# Altium footprint library Lib Pcb.PcbLib: 84 footprints (part 1 of 6)
Each footprint in its own frame and in the unit in brackets; x right, y up, seen from the top. Pads: shape width x height; smd on the part's side, far side on the other; paste and mask are expansions set on the pad; w line width, h text height; cw(c..) or ccw(c..) is an arc to the next point about the centre after c.
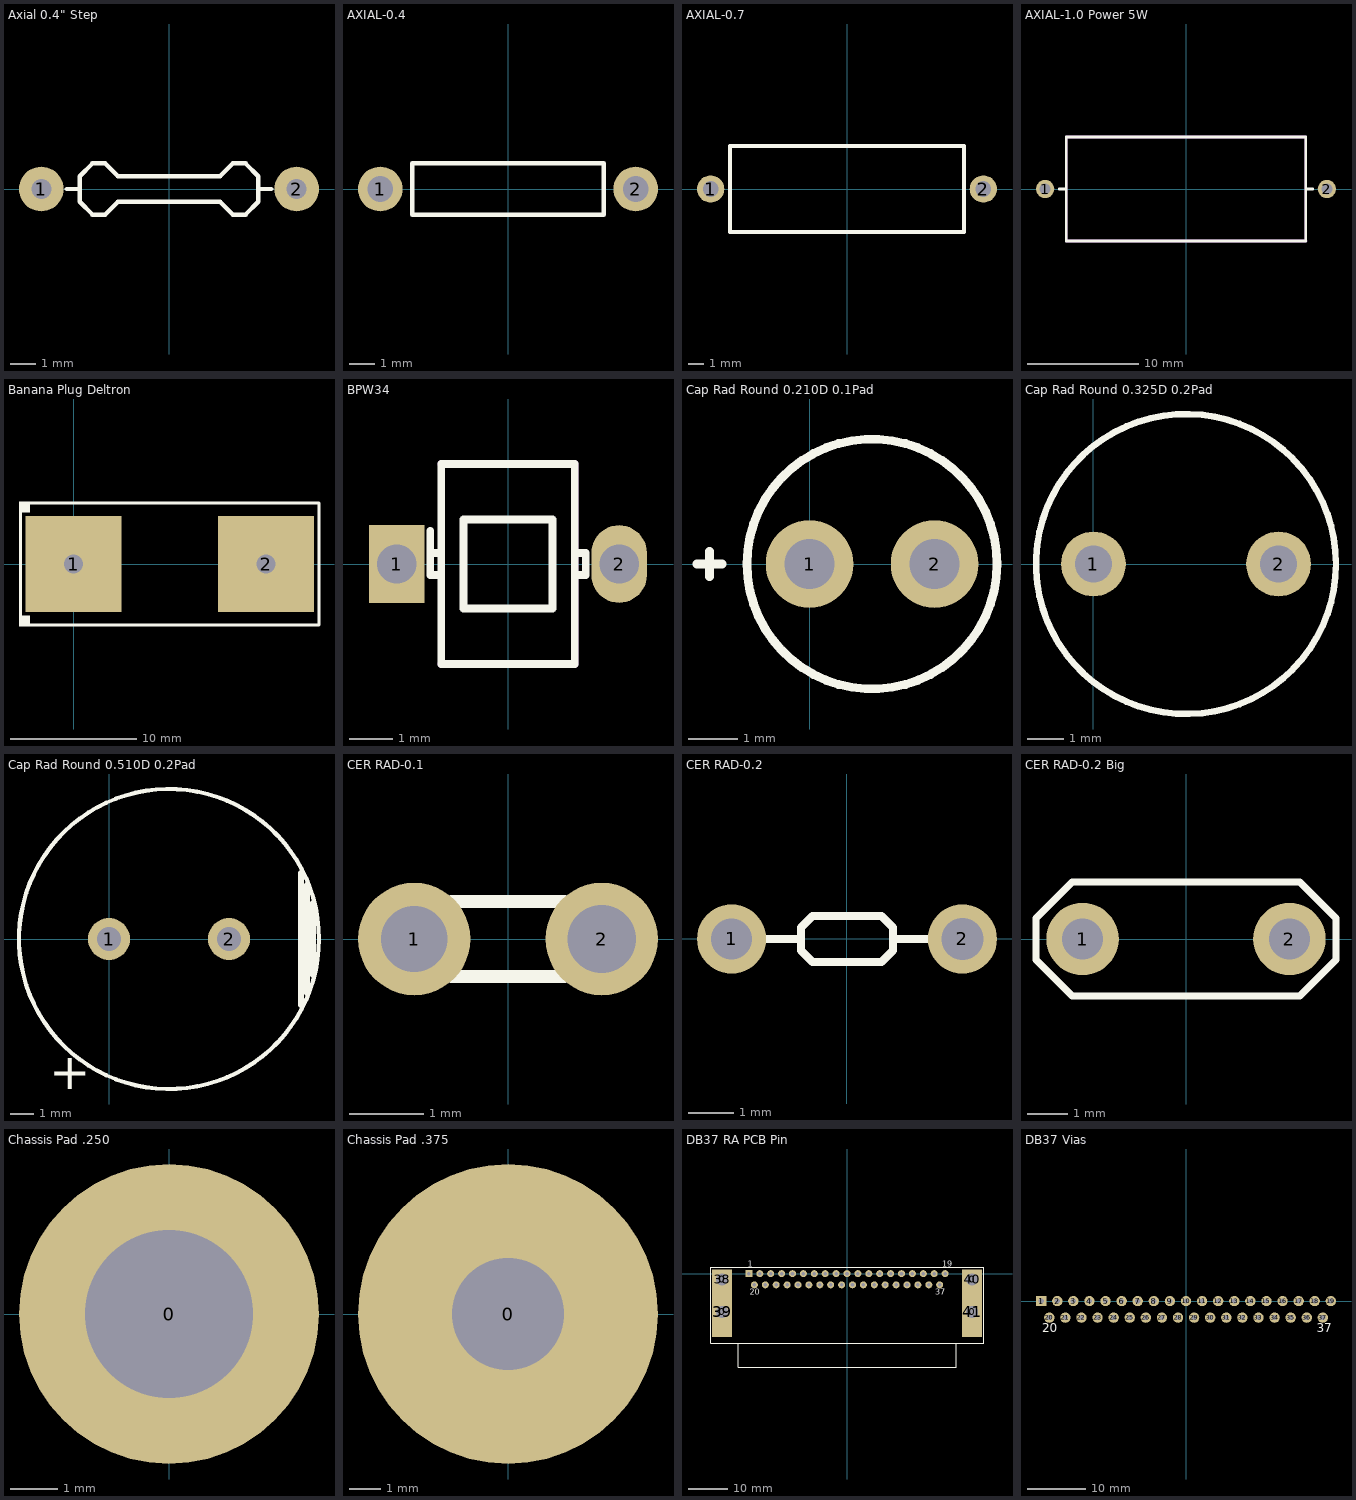
[diagram p0: the footprints below, top view; thin cyan lines are the x and y axes]

## Axial 0.4" Step [mil] "Axial 3D Step"
height 100
pads (2):
  round 70 hole 31.5: 1(-200,0) 2(200,0)
Top Overlay:
  lines w7: -160,0 -140,0 ; 140,0 160,0 ; -140,-20 -120,-40 -100,-40 -80,-20 80,-20 100,-40 120,-40 140,-20 140,20 120,40 100,40 80,20 -80,20 -100,40 -120,40 -140,20 -140,-20
3D body: height 115.5, standoff -100, extent -211.99,-45.49 212.01,45.51

## AXIAL-0.4 [mil] "Resistance 1/4W"
height 100
pads (2):
  round 70 hole 40: 1(-200,0) 2(200,0)
Top Overlay:
  lines w7: -150,-40 150,-40 150,40 -150,40 -150,-40
3D body: height 20, standoff -40, extent 190,-10 210,10
3D body: height 90, standoff 10, extent -155,-45 155,45
3D body: height 40, standoff 20, extent -210,-10 -155,10
3D body: height 40, standoff 20, extent 155,-10 210,10
3D body: height 20, standoff -40, extent -210,-10 -190,10

## AXIAL-0.7 [mil]
pads (2):
  round 70 hole 40: 1(-350,0) 2(350,0)
Top Overlay:
  lines w10: -300,-110 -300,110 300,110 300,-110 -300,-110

## AXIAL-1.0 Power 5W [mm]
pads (2):
  round 1.65 hole 1: 1(-12.7,0) 2(12.7,0)
Top Overlay:
  lines w0.254: -11.43,0 -10.795,0 ; 10.795,0 11.43,0 ; -10.795,-4.699 10.795,-4.699 10.795,4.699 -10.795,4.699 -10.795,-4.699
Mechanical 3:
  lines w0.254: -10.795,-4.699 -10.795,4.699 10.795,4.699 10.795,-4.699 ; -10.77,-4.699 10.82,-4.699

## Banana Plug Deltron [mil]
pads (2):
  rect 300x300 hole 60: 1(0,0) 2(600,0)
Top Overlay:
  rectangle: -170,-195 -135,-160
  rectangle: -170,160 -135,195
  lines w10: -165,-190 765,-190 765,190 -165,190 -165,-190

## BPW34 [mil] "BPW34 Trough Hole"
height 100
pads (2):
  rect 50x70 hole 35.4: 1(-100,0)
  oval 50x70 hole 35.4: 2(100,0)
Top Overlay:
  lines w7: -70,10 -60,10 ; -70,30 -70,-10 -60,-10 ; 60,-10 70,-10 70,10 60,10 ; -60,-90 -60,90 60,90 60,-90 -60,-90 ; -40,-40 -40,0 -40,40 40,40 40,-40 -40,-40
Mechanical 1:
  lines w7: -60,-90 60,-90 60,90 -60,90
3D body: height 70, standoff 10, extent -60,-90 60,90
3D body: height 77, standoff 75, extent -40,-40 40,40

## Cap Rad Round 0.210D 0.1Pad [mil] "Cap Rad Round 0.210 0.1Pad"
height 450
pads (2):
  round 70 hole 40: 1(0,0) 2(100,0)
Top Overlay:
  circle w7: c50,0 r100
  lines w7: -90,0 -70,0 ; -80,-10 -80,10
3D body: height 200, standoff 100, extent 81.32,-39.92 161.01,39.92
3D body: height 400, standoff 300, extent 81.32,-39.92 161.01,39.92
3D body: height 10, standoff -30, extent -14.88,-14.96 15,14.98
3D body: height 10, standoff -30, extent 85.12,-14.96 115,14.98
3D body: height 460, standoff 10, extent -54.17,-104.79 155,104.8
3D body: height 420, standoff 20, extent -20.29,-87.82 159,91.82

## Cap Rad Round 0.325D 0.2Pad [mil]
pads (2):
  round 70 hole 40: 1(0,0) 2(200,0)
Top Overlay:
  circle w7: c100,0 r162

## Cap Rad Round 0.510D 0.2Pad [mil]
pads (2):
  round 70 hole 40: 1(0,0) 2(200,0)
Top Overlay:
  circle w7: c100,0 r250
  lines w10: 320,-110 320,110 ; 330,-90 330,90 ; 340,-60 340,60
  text "+" at -100,-250 h60

## CER RAD-0.1 [mil]
pads (2):
  round 60 hole 35.4: 1(-50,0)
  round 60 hole 36.4: 2(50,0)
Top Overlay:
  lines w7: -40,-10 -30,-20 30,-20 40,-10 40,10 30,20 -30,20 -40,10 -40,-10
3D body: height 77, standoff 10, extent -40,-20 40,20

## CER RAD-0.2 [mil]
height 150
pads (2):
  round 60 hole 35.4: 1(-100,0)
  round 60 hole 36.4: 2(100,0)
Top Overlay:
  lines w7: -75,0 -40,0 ; 40,0 75,0 ; -40,-10 -30,-20 30,-20 40,-10 40,10 30,20 -30,20 -40,10 -40,-10
3D body: height 77, standoff 10, extent -40,-20 40,20

## CER RAD-0.2 Big [mil] "Capacitor Ceramic 0.2\"cc"
height 150
pads (2):
  round 70 hole 40: 1(-100,0) 2(100,0)
Top Overlay:
  lines w7: -145,-20 -145,20 -110,55 110,55 145,20 145,-20 110,-55 -110,-55 -145,-20
3D body: height 275, standoff 50, extent -150,-60 150,60
3D body: height 5, standoff -70, extent 85.13,-14.96 115.01,14.98
3D body: height 5, standoff -70, extent -114.88,-14.96 -85,14.98

## Chassis Pad .250 [mil] "Chassis Pad"
pads (1):
  round 250 hole 140: 0(0,0)

## Chassis Pad .375 [mil] "Chassis Pad"
pads (1):
  round 375 hole 140: 0(0,0)

## DB37 RA PCB Pin [mil] "DB37 Norcomp 183-037-113R161"
height 500
pads (45):
  round 125 on Top Overlay: 0(-1250,-381) 0(-1250,-56) 0(1250,-381) 0(1250,-56)
  rect 70x70 hole 35.4: 1(-981,0)
  round 70 hole 35.4: 2(-872,0) 3(-763,0) 4(-654,0) 5(-545,0) 6(-436,0) 7(-327,0) 8(-218,0) 9(-109,0) 10(0,0) 11(109,0) 12(218,0) 13(327,0) 14(436,0) 15(545,0) 16(654,0) 17(763,0) 18(872,0) 19(981,0) 20(-926,-112) 21(-817,-112) 22(-708,-112) 23(-599,-112) 24(-490,-112) 25(-381,-112) 26(-272,-112) 27(-163,-112) 28(-54,-112) 29(55,-112) 30(164,-112) 31(273,-112) 32(382,-112) 33(491,-112) 34(600,-112) 35(709,-112) 36(818,-112) 37(927,-112)
  rect 200x200 hole 120: 38(-1250,-56) 40(1250,-56)
  rect 200x500 hole 120: 39(-1250,-381) 41(1250,-381)
Top Overlay:
  lines w5: -1090,-696 -1090,-936 1090,-936 1090,-696 ; -1365,-696 1365,-696 1365,64 -1365,64 -1365,-696
  text "1" at -995,70 h59.06
  text "20" at -975,-210 h59.06
  text "37" at 885,-210 h59.06
  text "19" at 950,70 h59.06
3D body: height 400, standoff 50, extent -1090,-936 1090,-696
3D body: height 500, standoff 5, extent -1365,-696 1365,-659
3D body: height 75, standoff 5, extent -1365,-696 1365,65
3D body: height 81, standoff 4, extent -1309.52,-115.88 -1190,3.89
3D body: height 81, standoff 4, extent -1309.52,-440.88 -1189.99,-321.11
3D body: height 81, standoff 4, extent 1190.48,-440.88 1310.01,-321.11
3D body: height 81, standoff 4, extent 1190.48,-115.88 1310.01,3.89
3D body: height 450, standoff 5, extent -1125,-659 1125,64

## DB37 Vias [mil] "DB37 Vias"
pads (37):
  rect 70x70 hole 35.4: 1(-981,0)
  round 70 hole 35.4: 2(-872,0) 3(-763,0) 4(-654,0) 5(-545,0) 6(-436,0) 7(-327,0) 8(-218,0) 9(-109,0) 10(0,0) 11(109,0) 12(218,0) 13(327,0) 14(436,0) 15(545,0) 16(654,0) 17(763,0) 18(872,0) 19(981,0) 20(-926,-112) 21(-817,-112) 22(-708,-112) 23(-599,-112) 24(-490,-112) 25(-381,-112) 26(-272,-112) 27(-163,-112) 28(-54,-112) 29(55,-112) 30(164,-112) 31(273,-112) 32(382,-112) 33(491,-112) 34(600,-112) 35(709,-112) 36(818,-112) 37(927,-112)
Top Overlay:
  text "37" at 885,-210 h59.06
  text "20" at -975,-210 h59.06
Mechanical 1:
  text "DB37 Vias" at -120,60 h60